# Altium schematic symbol library STM32F407_Board.SCHLIB: 166 symbols (part 1 of 3)
Pins are listed as number, name and electrical type; pins without a type are passive.

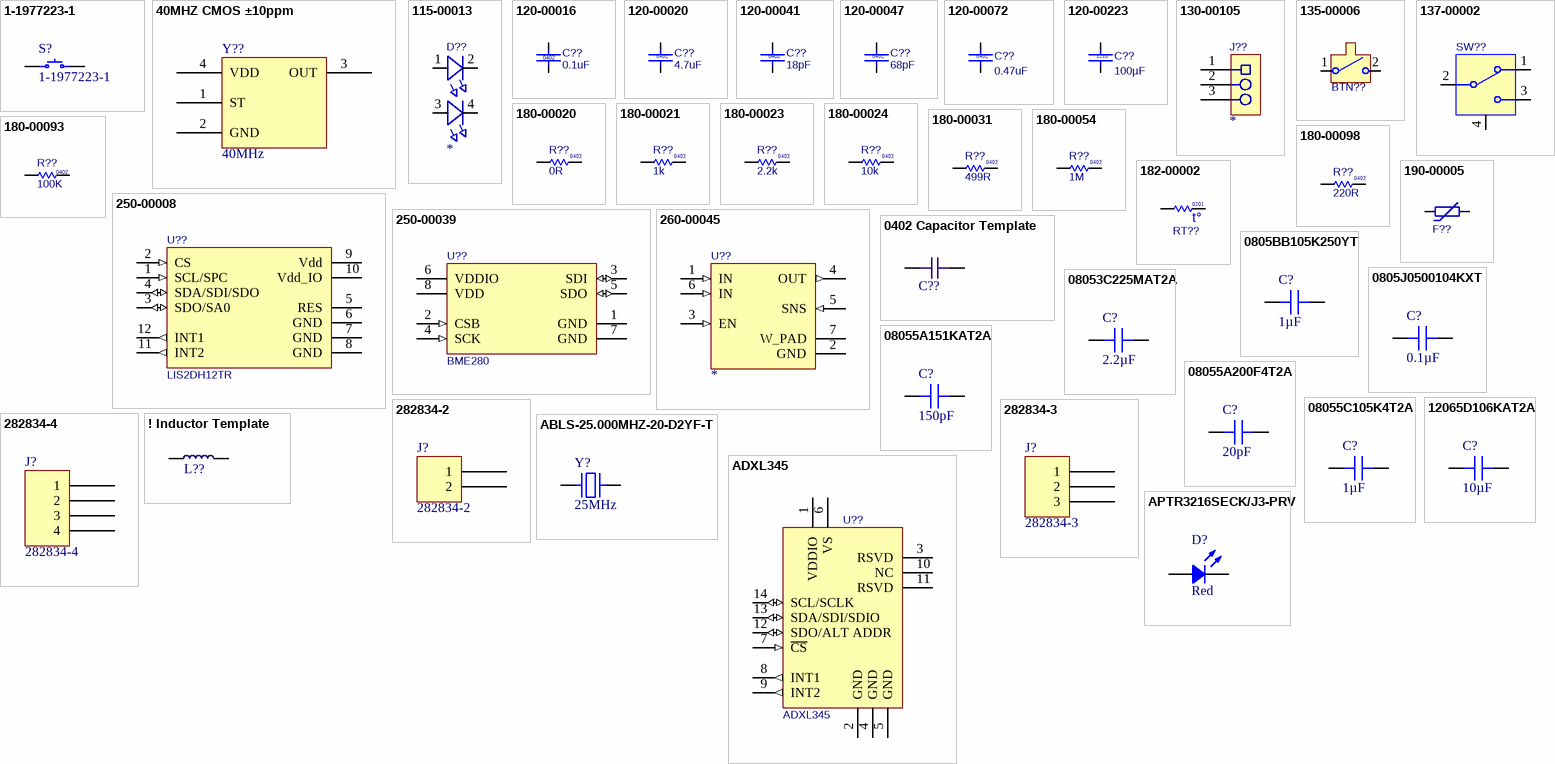
[diagram p0: symbols 1-1977223-1 to APTR3216SECK/J3-PRV]

## 1-1977223-1
designator S?
SWITCH TACTILE SPST-NO 0.05A 24V; Manufacturer: TE Connectivity ALCOSWITCH Switches; Actuator Height off PCB, Vertical: 5.00mm; Actuator Orientation: Top Actuated; Actuator Type: Standard; Contact Rating @ Voltage: 0.05A @ 24VDC; Illumination: Non-Illuminated; Operating Force: 260gf; Outline: 6.00mm x 6.00mm; Switch Function: Off-Mom; Part Number: 1-1977223-1; Circuit: SPST-NO; ComponentLink1Description: Datasheet; ComponentLink1URL: https://www.te.com/commerce/DocumentDelivery/DDEController?Action=srchrtrv&DocNm=1308111-1_SWITCHES_CORE_PROGRAM_CATALOG&DocType=CS&DocLang=English; ComponentLink2Description: DigiKey Link; ComponentLink2URL: http://digikey.com/product-detail/en/te-connectivity-alcoswitch-switches/1-1977223-1/1-1977223-1-ND/5597032; LastUpdated: 02/09/2020 01:27:07; Lifecycle Status: Active; Minimum Order: 0; Mounting Type: Surface Mount; Price: 0; Series: FSMJSMA; Supplier 1: DigiKey; Supplier Part Number 1: 1-1977223-1-ND; Termination Style: Gull Wing
footprint TE FSM4JSMA
pins: 1, 2, 3, 4

## 40MHZ CMOS ±10ppm
designator Y??, comment 40MHz
OSC MEMS 40.0000MHZ 1.8-3.3V 2016 SMD 15pF Load; Frequency Stability: ±10ppm; Current - Supply (Max): 4.5mA; Output: CMOS; Operating Temperature: -40°C ~ 85°C; Supplier 3: LCSC; Supplier Part Number 3: C669085
footprint SiT8008B (2.0 x 1.6 x 0.75 mm)
pins: 1 ST, 2 GND, 3 OUT, 4 VDD

## 115-00013
designator D??
Dual LED, Red/Green, Right Angle, Dome 1208; Part Number: 115-00013; Manufacturer 1: Dialight; Manufacturer Part Number 1: 5988510207F; Part Name: LED Red/Green RA SMT 1208; Body Size: 3.2mm x 1.5mm; Current: 20mA; Item Phase: In Production; MFG Package: 1208 Bi-color; Use in new designs: Yes; Voltage: None; Color: *; Supplier 1: Digi-Key; Supplier Part Number 1: 350-2072-1-ND; Height: 1.0mm; Max Operating Temp: None; Min Operating Temp: None; Pins: 4; Revision: 0A; Size: None; UBX Code: None; Manufacturer 2: None; Manufacturer Part Number 2: None; Supplier 2: None; Supplier Part Number 2: None
footprint LED_4Pin_4213_RA_3215
pins: 1 A1, 2 C1, 3 A2, 4 C2

## 120-00016
designator C??, comment value 0.1uF  Size: 0402  (hidden comment: 120-000160.1uF)
Cap, Ceramic 0.1uF 10V 10% X5R 0402; Part Name: CAP CER 0.1UF 10V 10% X5R 0402; Part_Type: Ceramic Capacitor; Manufacturer: Murata Electronics North America; Manufacturer P/N: GRM155R61A104KA01J; Item_Phase: Production; Component Mounting Type: SMT; Tolerance: +/- 10%; Use in new designs: Yes; Part Number: 120-00016; Revision: 0A; Supplier 1: Digi-Key; Supplier Part Number 1: 490-6297-1-ND; Manufacturer 2: Yageo; Manufacturer P/N 2: CC0402KRX5R6BB104; Supplier 2: Digi-Key; Supplier Part Number 2: 311-1336-1-ND; Arena Link: https://app.bom.com/a/GYHPV2L2L43KRMBK?v=spec.summary; Height: 0.55mm; Pins: 2; Temperature Coefficient: X5R; Voltage: 10V
simulation model CAP (Semiconductor Capacitor)
signal-integrity model Cap Semi
footprint Cap 0402 HD (Chip Capacitor, 2-Leads, Body 1.00x0.50mm, IPC High Density)
footprint Cap 0402
pins: 1, 2

## 120-00020
designator C??  value 4.7uF  Size: 0402
Cap, Ceramic 4.7uF 10V 20% X5R 0402; Part Number: 120-00020; Manufacturer 1: Samsung Electro-Mechanics America, Inc; Manufacturer Part Number 1: CL05A475MP5NRNC; Part Name: CAP CER 4.7uF 10V 20% X5R 0402; Item Phase: In Production; Tolerance: +/- 20%; Use in new designs: Yes; UBX Code: None; Supplier 1: Digi-Key; Supplier Part Number 1: 1276-1482-1-ND; Manufacturer 2: Yageo; Manufacturer Part Number 2: CC0402KRX5R6BB475; Supplier 2: Digi-Key; Supplier Part Number 2: 311-3477-1-ND; Height: 0.55mm; Max Operating Temp: 85; Min Operating Temp: -55; Pins: 2; Revision: 0C; Temperature Coefficient: X5R; Voltage: 10V
simulation model CAP (Semiconductor Capacitor)
signal-integrity model Cap Semi
footprint Cap 0402 HD
pins: 1, 2

## 120-00041
designator C??  value 18pF  Size: 0402
Cap, Ceramic 18pF 50V 5% NP0 0402; Part Number: 120-00041; Manufacturer 1: NIC Components Inc; Manufacturer Part Number 1: NMC0402NPO180J50TRPF; Part Name: CAP CER 18PF 50V 5% NP0 0402; Item Phase: In Production; Tolerance: +/- 5%; Use in new designs: Yes; UBX Code: None; Supplier 1: Arrow; Supplier Part Number 1: NMC0402NPO180J50TRPF; Manufacturer 2: CCK; Manufacturer Part Number 2: CCK0402NPO5J180PL; Supplier 2: None; Supplier Part Number 2: None; Height: 0.55mm; Max Operating Temp: 125; Min Operating Temp: -55; Pins: 2; Revision: 0C; Temperature Coefficient: NP0; Voltage: 50V
simulation model CAP (Semiconductor Capacitor)
signal-integrity model Cap Semi
footprint Cap 0402 HD
pins: 1, 2

## 120-00047
designator C??  value 68pF  Size: 0402
Cap, Ceramic, 68pF, 50V, 1%, NP0, 0402; Part Number: 120-00047; Manufacturer 1: Murata Electronics North America; Manufacturer Part Number 1: GRM1555C1H680FA01D; Part Name: CAP CER 68PF 50V 1% NP0 0402; Item Phase: Unreleased; Tolerance: +/- 1%; Use in new designs: Yes; UBX Code: None; Supplier 1: Digi-Key; Supplier Part Number 1: 490-8219-1-ND; Manufacturer 2: AVX Corporation; Manufacturer Part Number 2: 04025A680FAT2A; Supplier 2: Digi-Key; Supplier Part Number 2: 478-7881-1-ND; Height: 0.55mm; Max Operating Temp: 125; Min Operating Temp: -55; Pins: 2; Revision: None; Temperature Coefficient: NP0; Voltage: 50V
simulation model CAP (Semiconductor Capacitor)
signal-integrity model Cap Semi
footprint Cap 0402 HD
pins: 1, 2

## 120-00072
designator C??  value 0.47uF  Size: 0402
Cap, Ceramic, 0.47UF 10V 10% X5R 0402; Part Number: 120-00072; Manufacturer 1: Murata Electronics North America; Manufacturer Part Number 1: GRM155R61A474KE15J; Part Name: CAP CER 0.47UF 10V 10% X5R 0402; Item Phase: In Production; Tolerance: +/- 10%; Use in new designs: Yes; UBX Code: None; Supplier 1: Digi-Key; Supplier Part Number 1: 490-6305-1-ND; Manufacturer 2: Samsung Electro-Mechanics America, Inc; Manufacturer Part Number 2: CL05A474KP5NNNC; Supplier 2: Digi-Key; Supplier Part Number 2: 1276-1173-1-ND; Height: 0.55mm; Max Operating Temp: 85; Min Operating Temp: -55; Pins: 2; Revision: 0A; Temperature Coefficient: X5R; Voltage: 10V
simulation model CAP (Semiconductor Capacitor)
signal-integrity model Cap Semi
footprint Cap 0402 HD
pins: 1, 2

## 120-00223
designator C??  value 100µF  Size: 1210
100µF ±20% 10V Ceramic Capacitor X5R 1210 (3225 Metric); Part Number: 120-00223; Manufacturer 1: Samsung Electro-Mechanics America, Inc.; Manufacturer Part Number 1: CL32A107MPVNNNE; Part Name: CAP CER 100UF 10V 20% X5R 1210; Item Phase: In Production; Tolerance: +/- 20%; Use in new designs: Yes; UBX Code: None; Supplier 1: Future Electronics; Supplier Part Number 1: Samsung Electro-Mechanics America, Inc. CL32A107MPVNNNE; Manufacturer 2: None; Manufacturer Part Number 2: None; Supplier 2: None; Supplier Part Number 2: None; Height: 2.8mm; Max Operating Temp: 85; Min Operating Temp: -55; Pins: 2; Revision: 0A; Temperature Coefficient: X5R; Voltage: 10V
simulation model CAP (Semiconductor Capacitor)
signal-integrity model Cap Semi
footprint Cap 1210
pins: 1, 2

## 130-00105
designator J??
Header, 0.100" Pitch, 3 Pin, Vertical SMT, Black; Part Number: 130-00105; Manufacturer 1: Harwin Inc; Manufacturer Part Number 1: M20-8770342; Part Name: CON HDR 0.1" 3 Pin 1 Row SMT; Item Phase: In Production; Use in new designs: Yes; Voltage: None; Manufacturer P/N: *; Supplier 1: Digi-Key; Supplier Part Number 1: 952-1951-ND; Diameter: None; Height: 9.93mm; Max Operating Temp: None; Min Operating Temp: None; Pins: 3; Revision: 0C; UBX Code: None; Manufacturer 2: Greenconn Corporation; Manufacturer Part Number 2: GPHC1010302A081B1BD; Supplier 2: Teamwise Limited; Supplier Part Number 2: Greenconn Corporation GPHC1010302A081B1BD
footprint HDR-0.1P-3Pin-1Row-SMT
pins: 1, 2, 3

## 135-00006
designator BTN??
Button SPST-NO Off-MOM, 50mA 12V, Right Angle, SMT; Part Number: 135-00006; Manufacturer 1: Omron Electronics Inc-EMC Div; Manufacturer Part Number 1: B3U-3000P; Part Name: Button Tactile SPST-NO 50mA 3mm RA SMT; Body Size: 3.00mm x 2.50mm; Item Phase: In Production; Use in new designs: Yes; Voltage: 12VDC; UBX Code: None; Supplier 1: Digi-Key; Supplier Part Number 1: SW1022CT-ND; Current: 50mA; Height: 1.35mm; Max Operating Temp: 70; Min Operating Temp: -25; Pins: 2; Revision: 0A; Manufacturer 2: None; Manufacturer Part Number 2: None; Supplier 2: None; Supplier Part Number 2: None
footprint B3U-3000P
pins: 1, 2

## 137-00002
designator SW??
Slide switch, SPDT, 3 Pin, 500mA, 15V, Through Hole; Part Number: 137-00002; Manufacturer 1: E-Switch; Manufacturer Part Number 1: EG1224; Part Name: Switch Slide SPDT 500mA 13.8mm RA TH; Item Phase: Unreleased; Use in new designs: Yes; UBX Code: None; Supplier 1: Digi-Key; Supplier Part Number 1: EG2585-ND; Current: 500mA; Height: 8.5mm; Max Operating Temp: 70; Min Operating Temp: -20; Pins: 3; Revision: None; Voltage: 15V; Manufacturer 2: None; Manufacturer Part Number 2: None; Supplier 2: None; Supplier Part Number 2: None
footprint EG1224
pins: 1, 2, 3, 4 GND (power)

## 180-00020
designator R??  value 0R  Size: 0402
Resistor 0 ohm 1/16W 0402; Part Number: 180-00020; Manufacturer 1: Yageo; Manufacturer Part Number 1: RC0402FR-070RL; Part Name: RES SMD 0.0 OHM JUMPER 1/16W 0402; Item Phase: In Production; Tolerance: None; Use in new designs: Yes; Supplier 1: Digi-Key; Supplier Part Number 1: 311-0.0LRCT-ND; Manufacturer 2: Hong Kong Resistors Manufactory; Manufacturer Part Number 2: RCT020RLF; Supplier 2: None; Supplier Part Number 2: None; Height: 0.40mm; Max Operating Temp: 155; Min Operating Temp: -55; Pins: 2; Power: 1/16W; Revision: 0E; Voltage: N/A; UBX Code: None
simulation model RESISTOR (Resistor)
signal-integrity model Res
footprint RES 0402 HD
pins: 1, 2

## 180-00021
designator R??  value 1k  Size: 0402
Resistor 1k ohm 1% 1/16W, 0402; Part Number: 180-00021; Manufacturer 1: Hong Kong Resistors Manufactory; Manufacturer Part Number 1: RCT021KFLF; Part Name: RES SMD 1K OHM 1% 1/16W 0402; Item Phase: In Production; Tolerance: +/- 1%; Use in new designs: Yes; Voltage: None; Supplier 1: None; Supplier Part Number 1: None; Manufacturer 2: Yageo; Manufacturer Part Number 2: RC0402FR-071KL; Supplier 2: Digi-Key; Supplier Part Number 2: 311-1.00KLRCT-ND; Height: 0.4mm; Max Operating Temp: 155; Min Operating Temp: -55; Pins: 2; Power: 1/16W; Revision: 0E; UBX Code: None
simulation model RESISTOR (Resistor)
signal-integrity model Res
footprint RES 0402 HD
pins: 1, 2

## 180-00023
designator R??  value 2.2k  Size: 0402
Resistor, 2.2Kohm, 1%, 1/16W, 0402; Part Number: 180-00023; Manufacturer 1: Rohm Semiconductor; Manufacturer Part Number 1: MCR01MRTF2201; Part Name: RES SMD 2.2K OHM 1% 1/16W 0402; Item Phase: In Production; Tolerance: +/- 1%; Use in new designs: Yes; Voltage: None; Supplier 1: Digi-Key; Supplier Part Number 1: RHM2.20KCDCT-ND; Manufacturer 2: Yageo; Manufacturer Part Number 2: RC0402FR-072K2L; Supplier 2: Digi-Key; Supplier Part Number 2: 311-2.20KLRCT-ND; Height: 0.4mm; Max Operating Temp: 155; Min Operating Temp: -55; Pins: 2; Power: 1/16W; Revision: 0A; UBX Code: None
simulation model RESISTOR (Resistor)
signal-integrity model Res
footprint RES 0402 HD
pins: 1, 2

## 180-00024
designator R??  value 10k  Size: 0402
Resistor 10k ohm 1% 1/16W, 0402; Part Number: 180-00024; Manufacturer 1: Samsung Electro-Mechanics America, Inc; Manufacturer Part Number 1: RC1005F103CS; Part Name: RES SMD 10K OHM 1% 1/16W 0402; Item Phase: In Production; Tolerance: +/- 1%; Use in new designs: Yes; UBX Code: None; Supplier 1: Digi-Key; Supplier Part Number 1: 1276-3431-1-ND; Manufacturer 2: Hong Kong Resistors Manufactory; Manufacturer Part Number 2: RCT0210KFLF; Supplier 2: None; Supplier Part Number 2: None; Height: 0.4mm; Max Operating Temp: 155; Min Operating Temp: -55; Pins: 2; Power: 1/16W; Revision: 0E; Voltage: N/A
simulation model RESISTOR (Resistor)
signal-integrity model Res
footprint RES 0402 HD
pins: 1, 2

## 180-00031
designator R??  value 499R  Size: 0402
Resistor, 499ohm, 1%, 1/16W, 0402; Part Number: 180-00031; Part Name: RES SMD 499 OHM 1% 1/16W 0402; Manufacturer: Rohm Semiconductor; Manufacturer P/N: MCR01MRTF4990; Item_Phase: Production; Component Mounting Type: SMT; Tolerance: +/- 1%; Use in new designs: Yes; Part_Type: Resistor; Supplier 1: Digi-Key; Supplier Part Number 1: RHM499CDCT-ND; Manufacturer 2: Samsung Electro-Mechanics America, Inc; Manufacturer P/N 2: RC1005F4990CS; Arena Link: https://app.bom.com/a/Q8RZ5CVCVEDU1SS5?v=spec.summary; Height: 0.4mm; Pins: 2; Power: 1/16W; Revision: 0D; Supplier 2: Digi-Key; Supplier Part Number 2: 1276-3992-1-ND; Alternate Footprint Ref: RES 0402
simulation model RESISTOR (Resistor)
signal-integrity model Res
footprint RES 0402 HD
pins: 1, 2

## 180-00054
designator R??  value 1M  Size: 0402
Resistor 1M ohm 1%, 1/16W, 0402; Part Number: 180-00054; Manufacturer 1: Samsung Electro-Mechanics America, Inc; Manufacturer Part Number 1: RC1005F105CS; Part Name: RES SMD 1M OHM 1% 1/16W 0402; Item Phase: In Production; Tolerance: +/- 1%; Use in new designs: Yes; Voltage: None; Supplier 1: Digi-Key; Supplier Part Number 1: 1276-3433-1-ND; Manufacturer 2: Hong Kong Resistors Manufactory; Manufacturer Part Number 2: RCT021MFLF; Supplier 2: None; Supplier Part Number 2: None; Height: 0.4mm; Max Operating Temp: 155; Min Operating Temp: -55; Pins: 2; Power: 1/16W; Revision: 0D; UBX Code: None
simulation model RESISTOR (Resistor)
signal-integrity model Res
footprint RES 0402 HD
pins: 1, 2

## 180-00093
designator R??  value 100K  Size: 0402
Resistor 100K ohm 1% 1/16W, 0402; Part Number: 180-00093; Manufacturer 1: Yageo; Manufacturer Part Number 1: RC0402FR-07100KL; Part Name: RES SMD 100K ohm 1% 1/16W 0402; Item Phase: In Production; Tolerance: +/- 1%; Use in new designs: Yes; Voltage: None; Supplier 1: Digi-Key; Supplier Part Number 1: 311-100KLRCT-ND; Manufacturer 2: Rohm Semiconductor; Manufacturer Part Number 2: MCR01MRTF1003; Supplier 2: Digi-Key; Supplier Part Number 2: RHM100KCDCT-ND; Height: 0.4mm; Max Operating Temp: 155; Min Operating Temp: -55; Pins: 2; Power: 1/16W; Revision: 0B; UBX Code: None
simulation model RESISTOR (Resistor)
signal-integrity model Res
footprint RES 0402 HD
pins: 1, 2

## 180-00098
designator R??  value 220R  Size: 0402
Resistor, 220ohm, 5%, 1/16W, 0402.; Part Number: 180-00098; Part Name: RES SMD 220 OHM 5% 1/16W 0402; Manufacturer: Panasonic Electronic Components; Manufacturer P/N: ERJ-2GEJ221X; Item_Phase: Production; Component Mounting Type: SMT; Tolerance: +/- 5%; Use in new designs: Yes; Part_Type: Resistor; Supplier 1: Digi-Key; Supplier Part Number 1: P220JCT-ND; Arena Link: https://app.bom.com/a/8Q9HNUDUDWVBJC30?v=spec.summary; Pins: 2; Power: 1/16W; Revision: 0C; Manufacturer 2: Samsung Electro-Mechanics America, Inc; Manufacturer P/N 2: RC1005J221CS; Supplier 2: Digi-Key; Supplier Part Number 2: 1276-4360-1-ND; Alternate Footprint Ref: RES 0402; Height: 0.4mm
simulation model RESISTOR (Resistor)
signal-integrity model Res
footprint RES 0402 HD
pins: 1, 2

## 182-00002
designator RT??, comment Size: 0201  (hidden comment: Res Thermal)
Thermistor, 10Kohm, NTC 5%, 0201, 0.6mm x 0.3mm; Part Number: 182-00002; Manufacturer 1: Murata Electronics North America; Manufacturer Part Number 1: NCP03XH103J05RL; Part Name: Thermistor 10k Ohm 5% 3380K 0201; Item Phase: Unreleased; Power: 1/20W; Tolerance: +/- 5%; Use in new designs: Yes; Value: 10k; Voltage: None; Supplier 1: Digi-Key; Supplier Part Number 1: 490-4644-1-ND; Body Size: 0.6mm x 0.3mm; Height: 0.26mm; Max Operating Temp: 125; Min Operating Temp: -40; Pins: 2; Revision: None; UBX Code: None
footprint RES 0201 HD
pins: 1, 2
text: t°

## 190-00005
designator F??
Fuse, PTC 8V, 750mA, hold, 1.5A trip, 1206; Part Number: 190-00005; Manufacturer 1: Littelfuse; Manufacturer Part Number 1: 1206L075THYR; Part Name: Fuse PTC 8V 750mA 1206; Body Size: None; Item Phase: Unreleased; MFG Package: 1206L; Use in new designs: Yes; Supplier 1: Digi-Key; Supplier Part Number 1: F3370CT-ND; Current: 750mA; Height: 0.75mm; Max Operating Temp: 85; Min Operating Temp: -40; Pins: 2; Revision: None; Size: 1206; Voltage: None; UBX Code: None
footprint Fuse 1206
pins: 1, 2

## 250-00008
designator U??  Manufacturer P/N: LIS2DH12TR
Accelerometer, 2G-16G Max, 12bit, LGA-12; Part Number: 250-00008; Part Name: LIS2DH12; Part_Type: Active Sensor; Manufacturer: STMicroelectronics; Item_Phase: Production; Accuracy: 1mg/digit; Bit Resolution: 12; Body Size: 2mm x 2mm; Component Mounting Type: SMT; Controller Interface: I2C/SPI; MFG Package: 12-LGA (2x2); Sensor Range Max: +/-16g; Sensor Range Min: +/-2g; SMT Pitch: 0.5mm; Use in new designs: Yes; Voltage: 3.6V; Revision: 0A; Supplier 1: Digi-Key; Supplier Part Number 1: 497-14851-1-ND; Arena Link: https://app.bom.com/a/I0JRX4N4N65KM89I?v=spec.summary; Height: 1mm; Package Type: LGA; Pins: 12; Sensor Type: Accelerometer
footprint LGA0.5P_4x4_12Pin
pins: 1 SCL/SPC (in), 2 CS (in), 3 SDO/SA0 (io), 4 SDA/SDI/SDO (io), 5 RES, 6 GND (power), 7 GND (power), 8 GND (power), 9 Vdd (power), 10 Vdd_IO (power), 11 INT2 (out), 12 INT1 (out)

## 250-00039
designator U??  Manufacturer P/N: BME280
SENSOR PRESSURE HUMIDITY TEMP; Part Number: 250-00039; Part_Type: Active Sensor; Manufacturer: Bosch Sensortec; Item_Phase: Pre-Production; Accuracy: ±3%; Body Size: 2.5mm x 2.5mm; Component Mounting Type: SMT; Controller Interface: I2C/SPI; MFG Package: DFN-8; Sensor Range Max: 1100 hPa; Sensor Range Min: 300 hPa; Sensor Type: Humidity/Pressure; SMT Pitch: 0.65mm; Use in new designs: Yes; Voltage: 3.6V; Part Name: BME280; Revision: 1; Supplier 1: Digi-Key; Supplier Part Number 1: 828-1063-1-ND; Arena Link: https://app.bom.com/a/ASBJPWFWFYX2LZ4C?v=spec.summary; Height: 1mm; Package Type: DFN; Pins: 8
footprint DFN0.65P-8Pin
pins: 1 GND (power), 2 CSB (in), 3 SDI (io), 4 SCK (in), 5 SDO (io), 6 VDDIO (power), 7 GND (power), 8 VDD (power)

## 260-00045
designator U??
IC REG LDO 3.3V 1A 6DFN; Part Number: 260-00045; Manufacturer 1: ON Semiconductor; Manufacturer Part Number 1: NCP692MN33T2G; Body Size: 3mm x 3mm; Item Phase: Unreleased; Reg Outputs: None; MFG Package: 6-VDFN Exposed Pad; SMT Pitch: 0.95mm; Thermal Pad: Yes; Manufacturer P/N: *; Supplier 1: Digi-Key; Supplier Part Number 1: NCP692MN33T2GOSTR-ND; Current: 1A; Height: 1mm; Max Operating Temp: 85; Min Operating Temp: -40; Part Name: NCP692MN33T2G; Pins: 6; Revision: None; Use in new designs: Yes; Voltage: 3.3V; UBX Code: None; Manufacturer 2: None; Manufacturer Part Number 2: None; Supplier 2: None; Supplier Part Number 2: None
footprint DFN0.95P-6Pin_W-Pad
pins: 1 IN (in), 2 GND (power), 3 EN (in), 4 OUT (out), 5 SNS (in), 6 IN (in), 7 W_PAD (power)

## 0402 Capacitor Template
designator C??  (value not drawn)
Chip Capacitor, 0402, ??nF, 10V, X7R; EIA Code: X7R; Max. Voltage: 10V; Value: ??nF
footprint C0402-IPC
footprint C0402-HIGH-DENSITY (Chip Capacitor, 2-Leads, Body 1.02x0.51mm, IPC High Density)
pins: 1, 2

## 0805BB105K250YT
designator C?, comment 1µF
CAP CER 1UF 25V X7R 0805; Part Number: 0805BB105K250YT; Manufacturer: Knowles Novacap; Tolerance: ±10%; Value: 1µF; Applications: General Purpose; Capacitance: 1µF; ComponentLink1Description: Datasheet; ComponentLink1URL: https://www.knowlescapacitors.com/getattachment/6c8d48ef-fc2b-4752-ae2c-ce6c208de0c4/High-Capacitance-Chip.aspx; ComponentLink2Description: DigiKey Link; ComponentLink2URL: http://digikey.com/product-detail/en/knowles-novacap/0805BB105K250YT/1763-1195-1-ND/7304292; Device Package: 0805 (2012 Metric); LastUpdated: 9/2/2020 01:04:39; Lifecycle Status: Active; Minimum Order: 1; Mounting Type: Surface Mount, MLCC; Operating Temperature: -55°C ~ 125°C; Package / Case: 0805 (2012 Metric); Packaging: TapeAndReel; PartId: 4178; Part Status: Active; Price: 0.89; Series: -; Size / Dimension: 0.080" L x 0.050" W (2.03mm x 1.27mm); Supplier 1: DigiKey; Supplier Part Number 1: 1763-1195-1-ND; Temperature Coefficient: X7R; Thickness (Max): 0.054" (1.37mm); Voltage - Rated: 25V
footprint CAP 0805_2012
pins: 1, 2

## 0805J0500104KXT
designator C?, comment 0.1µF
CAP CER 0.1UF 50V X7R 0805; Part Number: 0805J0500104KXT; Manufacturer: Knowles Syfer; Tolerance: ±10%; Value: 0.1µF; Applications: General Purpose; Capacitance: 0.1µF; ComponentLink1Description: Datasheet; ComponentLink1URL: https://www.knowlescapacitors.com/getattachment/2dbfc8bc-e2b3-4b4d-afb1-43b011b9ebe0/High-Std-Voltage.aspx; ComponentLink2Description: DigiKey Link; ComponentLink2URL: http://digikey.com/product-detail/en/knowles-syfer/0805J0500104KXT/1608-1000-1-ND/5730199; Device Package: 0805 (2012 Metric); LastUpdated: 02/09/2020 01:04:31; Lifecycle Status: Active; Minimum Order: 1; Mounting Type: Surface Mount, MLCC; Operating Temperature: -55°C ~ 125°C; Package / Case: 0805 (2012 Metric); Packaging: TapeAndReel; PartId: 8322; Part Status: Active; Price: 0.17; Series: -; Size / Dimension: 0.079" L x 0.049" W (2.00mm x 1.25mm); Supplier 1: DigiKey; Supplier Part Number 1: 1608-1000-1-ND; Temperature Coefficient: X7R; Thickness (Max): 0.051" (1.30mm); Voltage - Rated: 50V
footprint CAP 0805_2012
pins: 1, 2

## 08053C225MAT2A
designator C?, comment 2.2µF
CAP CER 2.2UF 25V X7R 0805; Part Number: 08053C225MAT2A; Manufacturer: AVX Corporation; Tolerance: ±20%; Value: 2.2µF; Applications: General Purpose; Capacitance: 2.2µF; ComponentLink1Description: Datasheet; ComponentLink1URL: http://datasheets.avx.com/X7RDielectric.pdf; ComponentLink2Description: DigiKey Link; ComponentLink2URL: http://digikey.com/product-detail/en/avx-corporation/08053C225MAT2A/478-10489-1-ND/6797614; Device Package: 0805 (2012 Metric); LastUpdated: 9/2/2020 01:04:11; Lifecycle Status: Active; Minimum Order: 1; Mounting Type: Surface Mount, MLCC; Operating Temperature: -55°C ~ 125°C; Package / Case: 0805 (2012 Metric); Packaging: TapeAndReel; PartId: 16805; Part Status: Active; Price: 0.09; Series: -; Size / Dimension: 0.079" L x 0.049" W (2.01mm x 1.25mm); Supplier 1: DigiKey; Supplier Part Number 1: 478-10489-1-ND; Temperature Coefficient: X7R; Thickness (Max): 0.060" (1.52mm); Voltage - Rated: 25V
footprint CAP 0805_2012
pins: 1, 2

## 08055A151KAT2A
designator C?, comment 150pF
CAP CER 150PF 50V NP0 0805; Part Number: 08055A151KAT2A; Manufacturer: AVX Corporation; Temperature Coefficient: C0G, NP0; Tolerance: ±10%; Value: 150pF; Applications: General Purpose; Capacitance: 150pF; ComponentLink1Description: Datasheet; ComponentLink1URL: http://datasheets.avx.com/C0GNP0-Dielectric.pdf; ComponentLink2Description: DigiKey Link; ComponentLink2URL: http://digikey.com/product-detail/en/avx-corporation/08055A151KAT2A/478-10501-1-ND/6797479; Device Package: 0805 (2012 Metric); LastUpdated: 9/2/2020 01:04:10; Lifecycle Status: Active; Minimum Order: 1; Mounting Type: Surface Mount, MLCC; Operating Temperature: -55°C ~ 125°C; Package / Case: 0805 (2012 Metric); Packaging: TapeAndReel; PartId: 17161; Part Status: Active; Price: 0.02; Series: -; Size / Dimension: 0.079" L x 0.049" W (2.01mm x 1.25mm); Supplier 1: DigiKey; Supplier Part Number 1: 478-10501-1-ND; Thickness (Max): 0.037" (0.94mm); Voltage - Rated: 50V
footprint CAP 0805_2012
pins: 1, 2

## 08055A200F4T2A
designator C?, comment 20pF
CAP CER 20PF 50V NP0 0805; Part Number: 08055A200F4T2A; Manufacturer: AVX Corporation; Temperature Coefficient: C0G, NP0; Tolerance: ±1%; Value: 20pF; Applications: Automotive; Capacitance: 20pF; ComponentLink1Description: Datasheet; ComponentLink1URL: http://datasheets.avx.com/C0GNP0-Dielectric.pdf; ComponentLink2Description: DigiKey Link; ComponentLink2URL: http://digikey.com/product-detail/en/avx-corporation/08055A200F4T2A/478-13059-1-ND/9948577; Device Package: 0805 (2012 Metric); LastUpdated: 02/09/2020 01:04:29; Lifecycle Status: Active; Minimum Order: 1; Mounting Type: Surface Mount, MLCC; Operating Temperature: -55°C ~ 125°C; Package / Case: 0805 (2012 Metric); Packaging: TapeAndReel; PartId: 9474; Part Status: Active; Price: 0.11; Ratings: AEC-Q200; Series: -; Size / Dimension: 0.079" L x 0.049" W (2.01mm x 1.25mm); Supplier 1: DigiKey; Supplier Part Number 1: 478-13059-1-ND; Voltage - Rated: 50V
footprint CAP 0805_2012
pins: 1, 2

## 08055C105K4T2A
designator C?, comment 1µF
CAP CER 1UF 50V X7R 0805; Part Number: 08055C105K4T2A; Manufacturer: AVX Corporation; Tolerance: ±10%; Value: 1µF; Applications: Automotive; Capacitance: 1µF; ComponentLink1Description: Datasheet; ComponentLink1URL: http://datasheets.avx.com/AutoMLCC.pdf; ComponentLink2Description: DigiKey Link; ComponentLink2URL: http://digikey.com/product-detail/en/avx-corporation/08055C105K4T2A/478-9556-1-ND/5322894; Device Package: 0805 (2012 Metric); LastUpdated: 02/09/2020 01:04:35; Lifecycle Status: Active; Minimum Order: 1; Mounting Type: Surface Mount, MLCC; Operating Temperature: -55°C ~ 125°C; Package / Case: 0805 (2012 Metric); Packaging: TapeAndReel; PartId: 6460; Part Status: Active; Price: 0.08; Ratings: AEC-Q200; Series: -; Size / Dimension: 0.079" L x 0.049" W (2.00mm x 1.25mm); Supplier 1: DigiKey; Supplier Part Number 1: 478-9556-1-ND; Temperature Coefficient: X7R; Thickness (Max): 0.055" (1.40mm); Voltage - Rated: 50V
footprint CAP 0805_2012
pins: 1, 2

## 12065D106KAT2A
designator C?, comment 10µF
CAP CER 10UF 50V X5R 1206; Part Number: 12065D106KAT2A; Manufacturer: AVX Corporation; Tolerance: ±10%; Value: 10µF; Applications: General Purpose; Capacitance: 10µF; ComponentLink1Description: Datasheet; ComponentLink1URL: http://datasheets.avx.com/cx5r.pdf; ComponentLink2Description: DigiKey Link; ComponentLink2URL: http://digikey.com/product-detail/en/avx-corporation/12065D106KAT2A/478-9979-1-ND/6149060; Device Package: 1206 (3216 Metric); LastUpdated: 02/09/2020 01:05:35; Lifecycle Status: Active; Minimum Order: 1; Mounting Type: Surface Mount, MLCC; Operating Temperature: -55°C ~ 85°C; Package / Case: 1206 (3216 Metric); Packaging: TapeAndReel; PartId: 21345; Part Status: Active; Price: 0.16; Series: -; Size / Dimension: 0.126" L x 0.063" W (3.20mm x 1.60mm); Supplier 1: DigiKey; Supplier Part Number 1: 478-9979-1-ND; Temperature Coefficient: X5R; Thickness (Max): 0.071" (1.80mm); Voltage - Rated: 50V
footprint CAP 1206_3216 - 1.8MM
pins: 1, 2

## 282834-2
designator J?
TERM BLK 2P SIDE ENT 2.54MM PCB; Manufacturer: TE Connectivity AMP Connectors; Current: 10A; Mating Orientation: Horizontal with Board; Number of Levels: 1; Pitch: 0.100" (2.54mm); Positions Per Level: 2; Voltage: 150V; Wire Gauge: 16-30 AWG; Wire Termination: Screw - Rising Cage Clamp; Part Number: 282834-2; Color: Green; ComponentLink1Description: Datasheet; ComponentLink1URL: https://www.te.com/commerce/DocumentDelivery/DDEController?Action=srchrtrv&DocNm=282834&DocType=Customer+Drawing&DocLang=English; ComponentLink2Description: DigiKey Link; ComponentLink2URL: http://digikey.com/product-detail/en/te-connectivity-amp-connectors/282834-2/A98333-ND/1150135; LastUpdated: 15/01/2020 04:15:38; Lifecycle Status: Active; Minimum Order: 1; Mounting Type: Through Hole; Packaging: Bulk; Part Status: Active; Price: 0.88; Series: Buchanan; Supplier 1: DigiKey; Supplier Part Number 1: A98333-ND
footprint TE 282834-2
pins: 1, 2

## 282834-3
designator J?
TERM BLK 3P SIDE ENT 2.54MM PCB; Manufacturer: TE Connectivity AMP Connectors; Current: 10A; Mating Orientation: Horizontal with Board; Number of Levels: 1; Pitch: 0.100" (2.54mm); Positions Per Level: 3; Voltage: 150V; Wire Gauge: 16-30 AWG; Wire Termination: Screw - Rising Cage Clamp; Part Number: 282834-3; Color: Green; ComponentLink1Description: Datasheet; ComponentLink1URL: https://www.te.com/commerce/DocumentDelivery/DDEController?Action=srchrtrv&DocNm=282834&DocType=Customer+Drawing&DocLang=English; ComponentLink2Description: DigiKey Link; ComponentLink2URL: http://digikey.com/product-detail/en/te-connectivity-amp-connectors/282834-3/A98334-ND/1153264; LastUpdated: 1/15/2020 04:15:50; Lifecycle Status: Active; Minimum Order: 1; Mounting Type: Through Hole; Packaging: Bulk; Part Status: Active; Price: 2.01; Series: Buchanan; Supplier 1: DigiKey; Supplier Part Number 1: A98334-ND
footprint TE 282834-3
pins: 1, 2, 3

## 282834-4
designator J?
TERM BLK 4P SIDE ENT 2.54MM PCB; Manufacturer: TE Connectivity AMP Connectors; Current: 10A; Mating Orientation: Horizontal with Board; Number of Levels: 1; Pitch: 0.100" (2.54mm); Positions Per Level: 4; Voltage: 150V; Wire Gauge: 16-30 AWG; Wire Termination: Screw - Rising Cage Clamp; Part Number: 282834-4; Color: Green; ComponentLink1Description: Datasheet; ComponentLink1URL: https://www.te.com/commerce/DocumentDelivery/DDEController?Action=srchrtrv&DocNm=282834&DocType=Customer+Drawing&DocLang=English; ComponentLink2Description: DigiKey Link; ComponentLink2URL: http://digikey.com/product-detail/en/te-connectivity-amp-connectors/282834-4/A98335-ND/1153265; LastUpdated: 1/15/2020 04:16:05; Lifecycle Status: Active; Minimum Order: 1; Mounting Type: Through Hole; Packaging: Bulk; Part Status: Active; Price: 2.68; Series: Buchanan; Supplier 1: DigiKey; Supplier Part Number 1: A98335-ND
footprint TE 282834-4
pins: 1, 2, 3, 4

## ! Inductor Template
designator L??  (value not drawn)
Inductor, ??uH; Value: ??H
footprint L0402-Murata-WW-High-Density (Chip Inductor, 2-Leads, Body 1.00x0.50mm, IPC High Density)
pins: 1, 2

## ABLS-25.000MHZ-20-D2YF-T
designator Y?, comment 25MHz
CRYSTAL 25.000MHZ 20PF SMD; Part Number: ABLS-25.000MHZ-20-D2YF-T; Manufacturer: Abracon LLC; ESR (Equivalent Series Resistance): 40 Ohms; Frequency Stability: ±30ppm; Frequency Tolerance: ±20ppm; Operating Mode: Fundamental; ComponentLink1Description: Datasheet; ComponentLink1URL: https://abracon.com/Resonators/abls.pdf; ComponentLink2Description: DigiKey Link; ComponentLink2URL: http://digikey.com/product-detail/en/abracon-llc/ABLS-25.000MHZ-20-D2YF-T/535-14354-1-ND/8582115; Frequency: 25MHz; Height - Seated (Max): 0.165" (4.20mm); LastUpdated: 02/09/2020 01:21:46; Lifecycle Status: Active; Load Capacitance: 20pF; Minimum Order: 1; Mounting Type: Surface Mount; Operating Temperature: -40°C ~ 85°C; Package / Case: HC-49/US; Packaging: TapeAndReel; PartId: 14; Part Status: Active; Price: 0.24; Series: ABLS; Size / Dimension: 0.449" L x 0.185" W (11.40mm x 4.70mm); Supplier 1: DigiKey; Supplier Part Number 1: 535-14354-1-ND; Type: MHz Crystal; Value: 25MHz
footprint ABRACON ABLS
pins: 1, 2

## ADXL345
designator U??  Manufacturer Part Number 1: ADXL345
SENSOR, ACCELEROMETER, 3-AXIS, I2C, SMT, +/-16g, LGA-14 3mmX5mm; Manufacturer 1: Analog Devices; Part Name: B39162B4353P810; Body Size: 1.4mm x 1.1mm; Current: None; Item Phase: In Production; MFG Package: QCS5P; Use in new designs: Yes; Part Number: ADXL345; Height: 0.45mm; Max Operating Temp: 85; Min Operating Temp: -40; Pins: 5; Revision: 0A; Voltage: N/A; UBX Code: None
footprint ADXL345 (CC-14-1, 14-pin LGA, Analog Devices Accelerometer, .8mm pitch, 3mmX5mm)
pins: 1 VDDIO (power) "Digital Supply Logic Voltage", 2 GND (power) "Ground", 3 RSVD "Connect to Vs or No Connect", 4 GND (power) "Ground", 5 GND (power) "Ground", 6 VS (power) "Supply Voltage", 7 ~{CS} (in) "Logic Low Chip Select for SPI Modes", 8 INT1 (out) "Interrupt 1 Output", 9 INT2 (out) "Interrupt 2 Output", 10 NC "Not Internally Connected", 11 RSVD "Connect to Gnd or No Connect", 12 SDO/ALT ADDR (io) "Serial Data Output/Alternate I2C Address Select.", 13 SDA/SDI/SDIO (io) "Serial Data (I2C)/Serial Data Input (SPI 4-Wire)/Serial Data Input and Output (SPI 3-Wire).", 14 SCL/SCLK (io) "Serial Communications Clock."

## APTR3216SECK/J3-PRV
designator D?, comment Red
LED SMD; Part Number: APTR3216SECK/J3-PRV; Manufacturer: Kingbright; Configuration: 1206; Current - Test: 20mA; Lens Color: Colorless; Lens Size: 1.60mm x 1.40mm; Lens Style: Rectangle with Flat Top; Lens Transparency: Clear; Millicandela Rating: 350mcd; Viewing Angle: 140°; Voltage - Forward (Vf) (Typ): 2.2V; Wavelength - Dominant: 625nm; Wavelength - Peak: 640nm; Color: Red; ComponentLink1Description: Datasheet; ComponentLink1URL: http://www.kingbrightusa.com/images/catalog/SPEC/APTR3216SECK-J3-PRV.pdf; ComponentLink2Description: DigiKey Link; ComponentLink2URL: http://digikey.com/product-detail/en/kingbright/APTR3216SECK-J3-PRV/754-APTR3216SECK-J3-PRVCT-ND/10293112; Device Package: 1206 (3216 Metric); Height (Max): 1.25mm; LastUpdated: 9/2/2020 01:21:09; Lifecycle Status: Active; Minimum Order: 1; Mounting Type: Surface Mount; Package / Case: 1206 (3216 Metric); Packaging: TapeAndReel; PartId: 194; Part Status: Active; Price: 0.20; Series: Heli-R; Size / Dimension: 3.20mm L x 1.60mm W; Supplier 1: DigiKey; Supplier Part Number 1: 754-APTR3216SECK/J3-PRVCT-ND; Supplier Device Package: 1206; Value: Red
footprint LED 1206_3216 RED
pins: 1, 2

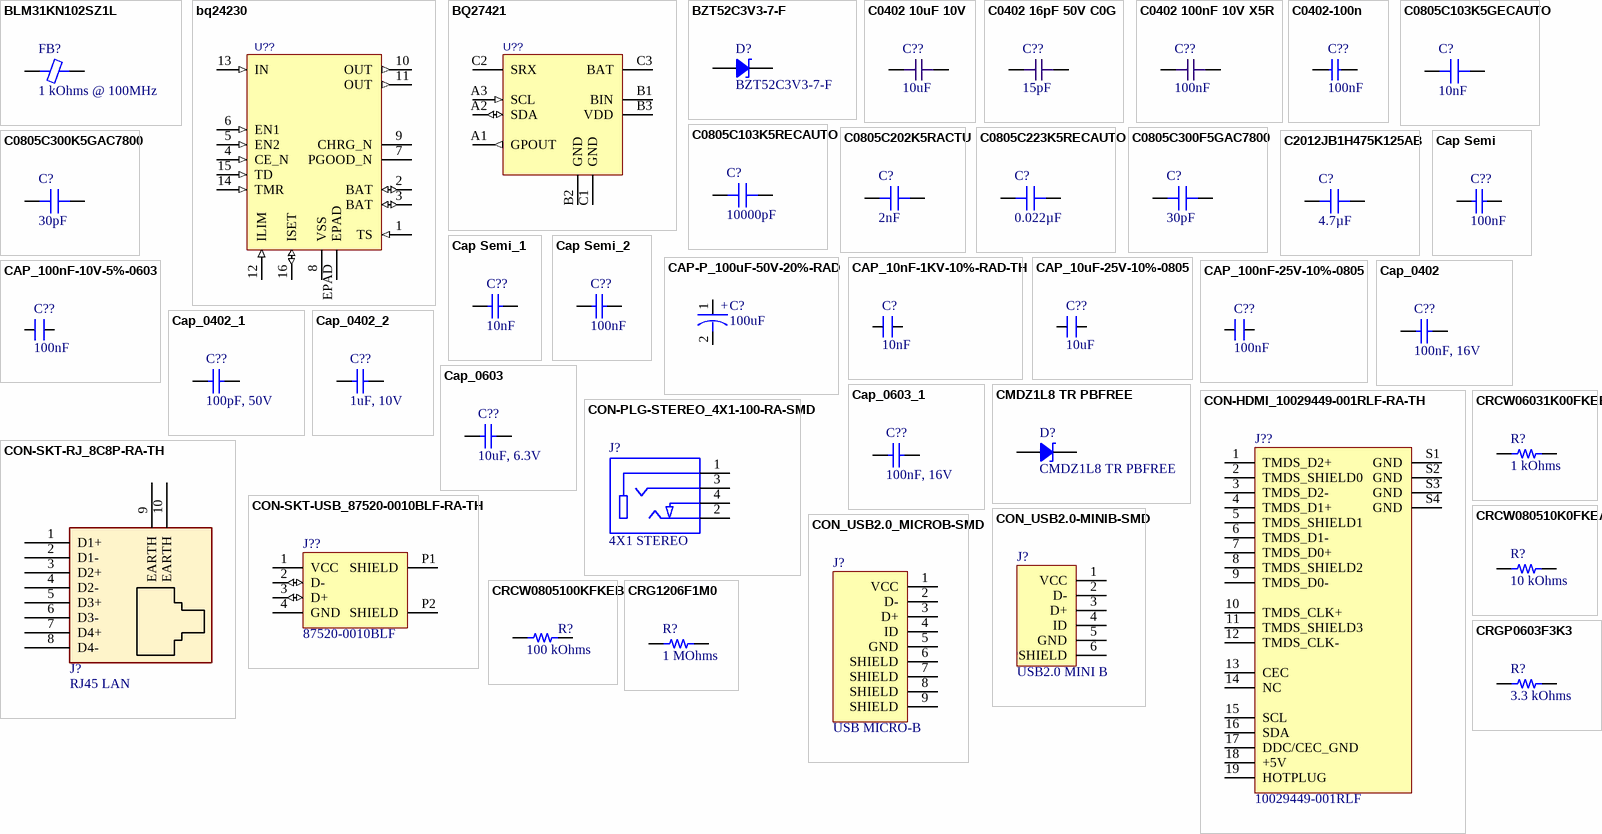
[diagram p1: symbols BLM31KN102SZ1L to CRGP0603F3K3]

## BLM31KN102SZ1L
designator FB?, comment 1 kOhms @ 100MHz
FERRITE BEAD 1 KOHM 1206 1LN; Part Number: BLM31KN102SZ1L; Manufacturer: Murata Electronics; Current Rating (Max): 2A; DC Resistance (DCR) (Max): 75mOhm; Filter Type: Power Line; Number of Lines: 1; ComponentLink1Description: Datasheet; ComponentLink1URL: https://www.murata.com/en-global/products/productdata/8796751200286/QNFA9115.pdf; ComponentLink2Description: DigiKey Link; ComponentLink2URL: http://digikey.com/product-detail/en/murata-electronics/BLM31KN102SZ1L/490-16522-1-ND/7564150; Device Package: 1206 (3216 Metric); Height (Max): 0.071" (1.80mm); Impedance @ Frequency: 1 kOhms @ 100MHz; LastUpdated: 02/09/2020 01:18:24; Lifecycle Status: Active; Minimum Order: 1; Mounting Type: Surface Mount; Operating Temperature: -55°C ~ 125°C; Package / Case: 1206 (3216 Metric); Packaging: TapeAndReel; PartId: 1565; Part Status: Active; Price: 0.10; Ratings: AEC-Q200; Series: BLM; Size / Dimension: 0.126" L x 0.063" W (3.20mm x 1.60mm); Supplier 1: DigiKey; Supplier Part Number 1: 490-16522-1-ND; Value: 1 kOhms @ 100MHz
footprint FER 1206_3216
pins: 1, 2

## bq24230
designator U??  (value not drawn)
BAT CHARGER, Li-ION, SMT, USB, PWR PATH, 500mA, 4.4V, 3mmx3mm QFN-16; Manufacturer 1: Texas Instruments; Body Size: 3.3mm x 3.3mm; Item Phase: Unreleased; MFG Package: VQFN-16; SMT Pitch: 0.5mm; Use in new designs: Yes; Voltage: 5-6.5V; UBX Code: None; Part Number: bq24230; Manufacturer Part Number 1: bq24230; Supplier 1: Digi-key; Supplier Part Number 1: 296-23937-2-ND; Height: 1mm; Max Operating Temp: 85; Min Operating Temp: -40; Pins: 16; Revision: None; Size: Other; Manufacturer 2: None; Manufacturer Part Number 2: None; Supplier 2: None; Supplier Part Number 2: None
footprint QFN0.5P3x3-16Pin_W-Pad (Quad Flat No-Lead, 0.5mm Pitch, 16 Contact, Exposed Pad, 3mmX3mm)
pins: 1 TS (in) "ExternalNTCThermistorInput.Connectthe TS inputto the NTCthermistorin the batterypack.TS monitorsa 10-kΩNTCthermistor.For applicationsthat do not utilizethe TS function,connecta 10-kΩfixedresistorfromTS toVSSto maintaina validvoltagelevelon TS.", 2 BAT (io) "ChargerPowerStageOutputand BatteryVoltageSenseInput.ConnectBATto the positiveterminalof thebattery.BypassBATto VSSwith a 4.7-μF to 47-μF ceramiccapacitor.", 3 BAT (io) "ChargerPowerStageOutputand BatteryVoltageSenseInput.ConnectBATto the positiveterminalof thebattery.BypassBATto VSSwith a 4.7-μF to 47-μF ceramiccapacitor.", 4 CE_N (in) "ChargeEnableActive-LowInput.ConnectCE to a high logiclevelto disablebatterycharging.OUTis activeandbatterysupplementmodeis still available.ConnectCE to a low logiclevelto enablethe batterycharger.CE isinternallypulleddownwith ~285kΩ. Do not leaveCE unconnectedto ensureproperoperation.", 5 EN2 (in) "InputCurrentLimitConfigurationInputs.Use EN1and EN2controlthe maximuminputcurrentand enableUSBcompliance.See Table1 for the descriptionof the operationstates.EN1and EN2are internallypulleddownwith~285kΩ. Do not leaveEN1or EN2unconnectedto ensureproperoperation.", 6 EN1 (in) "InputCurrentLimitConfigurationInputs.Use EN1and EN2controlthe maximuminputcurrentand enableUSBcompliance.See Table1 for the descriptionof the operationstates.EN1and EN2are internallypulleddownwith~285kΩ. Do not leaveEN1or EN2unconnectedto ensureproperoperation.", 7 PGOOD_N (oc) "Open-drainPowerGoodStatusIndicationOutput.PGOODpullsto VSSwhena validinputsourceis detected.PGOODis high-impedancewhenthe inputpoweris not withinspecifiedlimits.ConnectPGOODto the desiredlogicvoltagerail usinga 1-kΩ– 100-kΩresistor,or use with an LEDfor visualindication.", 8 VSS (power) "Ground.Connectto the thermalpad and to the groundrail of the circuit.", 9 CHRG_N (oc) "Open-DrainChargingStatusIndicationOutput.CHGpullsto VSSwhenthe batteryis charging.CHGis highimpedancewhenchargingis completeand whenchargeris disabled.", 10 OUT (out) "SystemSupplyOutput.OUTprovidesa regulatedoutputwhenthe inputis belowthe OVPthresholdand abovethe regulationvoltage.Whenthe inputis out of the operationrange,OUTis connectedto VBAT. ConnectOUTtothe systemload.BypassOUTto VSSwith a 4.7-μF to 47-μF ceramiccapacitor.", 11 OUT (out) "SystemSupplyOutput.OUTprovidesa regulatedoutputwhenthe inputis belowthe OVPthresholdand abovethe regulationvoltage.Whenthe inputis out of the operationrange,OUTis connectedto VBAT. ConnectOUTtothe systemload.BypassOUTto VSSwith a 4.7-μF to 47-μF ceramiccapacitor.", 12 ILIM (in) "AdjustableCurrentLimitProgrammingInput.Connecta 3.1-kΩto 7.8-kΩresistorfromILIMto VSSto programthemaximuminputcurrent(EN2=1,EN1=0).The inputcurrentincludesthe systemload and the batterychargecurrent.LeavingILIMunconnecteddisablesall charging.In USB100/500mode(EN2= 0, EN1=0/1),ILIMcan beleft floating.", 13 IN (in) "InputPowerConnection.ConnectIN to the connectedto externalDC supply(AC adapteror USBport).The inputoperatingrangeis 4.35V to 6.6 V. The inputcan acceptvoltagesup to 26 V withoutdamagebut operationissuspended.Connectbypasscapacitor1μF to 10μF to VSS", 14 TMR (in) "TimerProgrammingInput.TMRcontrolsthe prechargeand fast-chargesafetytimers.ConnectTMRto VSStodisableall safetytimers.Connecta 18-kΩto 72-kΩresistorbetweenTMRand VSSto programthe timersadesiredlength.LeaveTMRunconnectedto set the timersto the 5-hourfast chargeand 30-minuteprechargedefaulttimervalues.", 15 TD (in) "TerminationDsableInput.ConnectTD high to disablechargertermination.ConnectTD to VSSto enablechargertermination.TD is checkedduringstart-uponly and cannotbe changedduringoperation.See the TD sectioninthis datasheetfor a descriptionof the behaviorwhenterminationis disabled.TD is internallypulleddownto VSSwith ~285kΩ. Do not leaveTD unconnectedto ensureproperoperation.", 16 ISET (io) "Fast-ChargeCurrentProgrammingInput.Connecta 1.8-kΩto 36-kΩresistorfromISETto VSSto programthefast-chargecurrentlevel.Chargingis disabledif ISETis left unconnected.Whilecharging,the voltageat ISETreflectsthe actualchargingcurrentand can be usedto monitorchargecurrent.See theChargeCurrentTranslatorsectionfor moredetails.", EPAD (power) "SystemSupplyOutput.OUTprovidesa regulatedoutputwhenthe inputis belowthe OVPthresholdand abovethe regulationvoltage.Whenthe inputis out of the operationrange,OUTis connectedto VBAT. ConnectOUTtothe systemload.BypassOUTto VSSwith a 4.7-μF to 47-μF ceramiccapacitor."

## BQ27421
designator U??
IC, SMT, BATTERY GAUGE, INGLE CELL Li-ION, COULOMB COUNTER, DSBGA-9 1.6mmX1.6mm; Part Number: BQ27421; Manufacturer 1: Texas Instruments; Part Name: B39162B4353P810; Body Size: 1.4mm x 1.1mm; Current: None; Item Phase: In Production; MFG Package: QCS5P; Use in new designs: Yes; Manufacturer Part Number 1: BQ27421; Height: 0.45mm; Max Operating Temp: 85; Min Operating Temp: -40; Pins: 5; Revision: 0A; Voltage: N/A; UBX Code: None
footprint BQ27421 (9-DSBGA, 9 pin Texas Instruments BQ27421 Battery Gauge, .5mm pitch, 1.6mmX1.6mm)
pins: A1 GPOUT (out) "General Purpose Open Collector Output", A2 SDA (io) "I2C Data Signal", A3 SCL (in) "I2C Clock Signal", B1 BIN (power) "Battery Insertion Detection Input", B2 GND (power) "Ground", B3 VDD (power) "1.8V LDO Output, Decouple with 1uF, Do Not Connect To External Circuit", C1 GND (power) "Ground", C2 SRX "Current Sense Input Connected to VSYS", C3 BAT (power) "LDO Input and Connection To Battery, Decouple with 1uF"

## BZT52C3V3-7-F
designator D?
DIODE ZENER 3.3V 500MW SOD123; Manufacturer: Diodes Incorporated; Current - Reverse Leakage @ Vr: 5µA @ 1V; Impedance (Max) (Zzt): 95 Ohms; Tolerance: ±6%; Voltage - Forward (Vf) (Max) @ If: 900mV @ 10mA; Part Number: BZT52C3V3-7-F; ComponentLink1Description: Datasheet; ComponentLink1URL: https://www.diodes.com/assets/Datasheets/ds18004.pdf; ComponentLink2Description: DigiKey Link; ComponentLink2URL: http://digikey.com/product-detail/en/diodes-incorporated/BZT52C3V3-7-F/BZT52C3V3-FDICT-ND/717854; LastUpdated: 9/2/2020 01:19:25; Lifecycle Status: Active; Minimum Order: 1; Mounting Type: Surface Mount; Operating Temperature: -65°C ~ 150°C; Package / Case: SOD-123; Packaging: TapeAndReel; PartId: 2214; Part Status: Active; Power - Max: 500mW; Price: 0.04; Series: -; Supplier 1: DigiKey; Supplier Part Number 1: BZT52C3V3-FDICT-ND; Supplier Device Package: SOD-123; Voltage - Zener (Nom) (Vz): 3.3V
footprint SOD-123
pins: 1, 2

## C0402 10uF 10V
designator C??  value 10uF  (hidden comment: C0402 10uF 10V)
Chip Capacitor, 0402, 10uF, 10V, X5R; EIA Code: X5R; Max. Voltage: 10V; Supplier 1: Digi-Key; Supplier Part Number 1: 1276-1450-2-ND
footprint C0402-HIGH-DENSITY (Chip Capacitor, 2-Leads, Body 1.02x0.51mm, IPC High Density)
pins: 1, 2

## C0402 16pF 50V C0G
designator C??, comment value 15pF  (hidden comment: C0402 15pF 50V C0G)
Chip Capacitor, 0402, 15pF, 50V, C0G; Max. Voltage: 50V; Supplier 1: Digi-Key; Supplier Part Number 1: 490-5926-1-ND; EIA Code: C0G
footprint C0402-IPC
footprint C0402-HIGH-DENSITY (Chip Capacitor, 2-Leads, Body 1.02x0.51mm, IPC High Density)
pins: 1, 2

## C0402 100nF 10V X5R
designator C??  value 100nF  (hidden comment: C0402 100nF 10V X5R)
Chip Capacitor, 0402, 100nF, 10V, X5R; EIA Code: X5R; Max. Voltage: 10V; Supplier 1: Digi-Key; Supplier Part Number 1: 311-1336-1-ND
footprint C0402-IPC
footprint C0402-HIGH-DENSITY (Chip Capacitor, 2-Leads, Body 1.02x0.51mm, IPC High Density)
pins: 1, 2

## C0402-100n
designator C??, comment 100nF
0.10µF 50V Ceramic Capacitor X7R 0603; Manufacturer Part Number: CL10B104KB8SFNC; Value: 100nF; Digi-Key Part Number: 1276-1936-1-ND
footprint c0402
footprint c0603
pins: 1, 2

## C0805C103K5GECAUTO
designator C?, comment 10nF
CAP CER 0805 10NF 50V C0G 10%; Part Number: C0805C103K5GECAUTO; Manufacturer: KEMET; Capacitance: 10000pF; Temperature Coefficient: C0G, NP0; Value: 10nF; Applications: Automotive, ESD Protection; ComponentLink1Description: Datasheet; ComponentLink1URL: https://api.kemet.com/component-edge/download/datasheet/C0805C103K5GECAUTO.pdf; ComponentLink2Description: DigiKey Link; ComponentLink2URL: http://digikey.com/product-detail/en/kemet/C0805C103K5GECAUTO/399-17903-1-ND/8640570; Device Package: 0805 (2012 Metric); Features: Low ESL; LastUpdated: 02/09/2020 01:04:06; Lifecycle Status: Active; Minimum Order: 1; Mounting Type: Surface Mount, MLCC; Operating Temperature: -55°C ~ 125°C; Package / Case: 0805 (2012 Metric); Packaging: TapeAndReel; PartId: 18336; Part Status: Active; Price: 0.06; Ratings: AEC-Q200; Series: ESD SMD Auto C0G; Size / Dimension: 0.079" L x 0.049" W (2.00mm x 1.25mm); Supplier 1: DigiKey; Supplier Part Number 1: 399-17903-1-ND; Thickness (Max): 0.039" (1.00mm); Tolerance: ±10%; Voltage - Rated: 50V
footprint CAP 0805_2012
pins: 1, 2

## C0805C103K5RECAUTO
designator C?, comment 10000pF
CAP CER 0805 10NF 50V X7R 10%; Part Number: C0805C103K5RECAUTO; Manufacturer: KEMET; Value: 10000pF; Applications: Automotive, ESD Protection; Capacitance: 10000pF; ComponentLink1Description: Datasheet; ComponentLink1URL: https://api.kemet.com/component-edge/download/datasheet/C0805C103K5RECAUTO.pdf; ComponentLink2Description: DigiKey Link; ComponentLink2URL: http://digikey.com/product-detail/en/kemet/C0805C103K5RECAUTO/399-17885-1-ND/8640552; Device Package: 0805 (2012 Metric); LastUpdated: 02/09/2020 01:04:31; Lifecycle Status: Active; Minimum Order: 1; Mounting Type: Surface Mount, MLCC; Operating Temperature: -55°C ~ 125°C; Package / Case: 0805 (2012 Metric); Packaging: TapeAndReel; PartId: 8498; Part Status: Active; Price: 0.05; Ratings: AEC-Q200; Series: ESD SMD Auto X7R; Size / Dimension: 0.079" L x 0.049" W (2.00mm x 1.25mm); Supplier 1: DigiKey; Supplier Part Number 1: 399-17885-1-ND; Temperature Coefficient: X7R; Thickness (Max): 0.035" (0.88mm); Tolerance: ±10%; Voltage - Rated: 50V
footprint CAP 0805_2012
pins: 1, 2

## C0805C202K5RACTU
designator C?, comment 2nF
CAP CER 2000PF 50V X7R 0805; Part Number: C0805C202K5RACTU; Manufacturer: KEMET; Tolerance: ±10%; Value: 2nF; Applications: Bypass, Decoupling; Capacitance: 2000pF; ComponentLink1Description: Datasheet; ComponentLink1URL: https://content.kemet.com/datasheets/KEM_C1002_X7R_SMD.pdf; ComponentLink2Description: DigiKey Link; ComponentLink2URL: http://digikey.com/product-detail/en/kemet/C0805C202K5RACTU/399-7343-1-ND/3316964; Device Package: 0805 (2012 Metric); LastUpdated: 02/09/2020 01:04:17; Lifecycle Status: Active; Minimum Order: 1; Mounting Type: Surface Mount, MLCC; Operating Temperature: -55°C ~ 125°C; Package / Case: 0805 (2012 Metric); Packaging: TapeAndReel; PartId: 14983; Part Status: Active; Price: 0.03; Series: SMD Comm X7R; Size / Dimension: 0.079" L x 0.049" W (2.00mm x 1.25mm); Supplier 1: DigiKey; Supplier Part Number 1: 399-7343-1-ND; Temperature Coefficient: X7R; Thickness (Max): 0.035" (0.88mm); Voltage - Rated: 50V
footprint CAP 0805_2012
pins: 1, 2

## C0805C223K5RECAUTO
designator C?, comment 0.022µF
CAP CER 0805 22NF 50V X7R 10%; Part Number: C0805C223K5RECAUTO; Manufacturer: KEMET; Value: 0.022µF; Applications: Automotive, ESD Protection; Capacitance: 0.022µF; ComponentLink1Description: Datasheet; ComponentLink1URL: https://api.kemet.com/component-edge/download/datasheet/C0805C223K5RECAUTO.pdf; ComponentLink2Description: DigiKey Link; ComponentLink2URL: http://digikey.com/product-detail/en/kemet/C0805C223K5RECAUTO/399-17886-1-ND/8640553; Device Package: 0805 (2012 Metric); LastUpdated: 9/2/2020 01:04:15; Lifecycle Status: Active; Minimum Order: 1; Mounting Type: Surface Mount, MLCC; Operating Temperature: -55°C ~ 125°C; Package / Case: 0805 (2012 Metric); Packaging: TapeAndReel; PartId: 15719; Part Status: Active; Price: 0.05; Ratings: AEC-Q200; Series: ESD SMD Auto X7R; Size / Dimension: 0.079" L x 0.049" W (2.00mm x 1.25mm); Supplier 1: DigiKey; Supplier Part Number 1: 399-17886-1-ND; Temperature Coefficient: X7R; Thickness (Max): 0.035" (0.88mm); Tolerance: ±10%; Voltage - Rated: 50V
footprint CAP 0805_2012
pins: 1, 2

## C0805C300F5GAC7800
designator C?, comment 30pF
CAP CER 30PF 50V NP0 0805; Part Number: C0805C300F5GAC7800; Manufacturer: KEMET; Temperature Coefficient: C0G, NP0; Tolerance: ±1%; Value: 30pF; Applications: General Purpose; Capacitance: 30pF; ComponentLink1Description: Datasheet; ComponentLink1URL: https://api.kemet.com/component-edge/download/datasheet/C0805C300F5GACTU.pdf; ComponentLink2Description: DigiKey Link; ComponentLink2URL: http://digikey.com/product-detail/en/kemet/C0805C300F5GAC7800/399-14586-1-ND/7103878; Device Package: 0805 (2012 Metric); Features: Low ESL; LastUpdated: 02/09/2020 01:04:34; Lifecycle Status: Active; Minimum Order: 1; Mounting Type: Surface Mount, MLCC; Operating Temperature: -55°C ~ 125°C; Package / Case: 0805 (2012 Metric); Packaging: TapeAndReel; PartId: 7037; Part Status: Active; Price: 0.29; Series: SMD Comm C0G; Size / Dimension: 0.079" L x 0.049" W (2.00mm x 1.25mm); Supplier 1: DigiKey; Supplier Part Number 1: 399-14586-1-ND; Thickness (Max): 0.035" (0.88mm); Voltage - Rated: 50V
footprint CAP 0805_2012
pins: 1, 2

## C0805C300K5GAC7800
designator C?, comment 30pF
CAP CER 30PF 50V NP0 0805; Part Number: C0805C300K5GAC7800; Manufacturer: KEMET; Temperature Coefficient: C0G, NP0; Tolerance: ±10%; Value: 30pF; Applications: General Purpose; Capacitance: 30pF; ComponentLink1Description: Datasheet; ComponentLink1URL: https://api.kemet.com/component-edge/download/datasheet/C0805C300K5GACTU.pdf; ComponentLink2Description: DigiKey Link; ComponentLink2URL: http://digikey.com/product-detail/en/kemet/C0805C300K5GAC7800/399-17443-1-ND/8570410; Device Package: 0805 (2012 Metric); Features: Low ESL; LastUpdated: 02/09/2020 01:04:24; Lifecycle Status: Active; Minimum Order: 1; Mounting Type: Surface Mount, MLCC; Operating Temperature: -55°C ~ 125°C; Package / Case: 0805 (2012 Metric); Packaging: TapeAndReel; PartId: 12424; Part Status: Active; Price: 0.06; Series: SMD Comm C0G; Size / Dimension: 0.079" L x 0.049" W (2.00mm x 1.25mm); Supplier 1: DigiKey; Supplier Part Number 1: 399-17443-1-ND; Thickness (Max): 0.035" (0.88mm); Voltage - Rated: 50V
footprint CAP 0805_2012
pins: 1, 2

## C2012JB1H475K125AB
designator C?, comment 4.7µF
CAP CER 4.7UF 50V JB 0805; Part Number: C2012JB1H475K125AB; Manufacturer: TDK Corporation; Tolerance: ±10%; Value: 4.7µF; Applications: General Purpose; Capacitance: 4.7µF; ComponentLink1Description: Datasheet; ComponentLink1URL: https://product.tdk.com/info/en/catalog/datasheets/mlcc_commercial_general_en.pdf?ref_disty=digikey; ComponentLink2Description: DigiKey Link; ComponentLink2URL: http://digikey.com/product-detail/en/tdk-corporation/C2012JB1H475K125AB/445-11510-1-ND/3953176; Device Package: 0805 (2012 Metric); Features: Low ESL; LastUpdated: 02/09/2020 01:04:16; Lifecycle Status: Active; Minimum Order: 1; Mounting Type: Surface Mount, MLCC; Operating Temperature: -25°C ~ 85°C; Package / Case: 0805 (2012 Metric); Packaging: TapeAndReel; PartId: 15333; Part Status: Active; Price: 0.18; Series: C; Size / Dimension: 0.079" L x 0.049" W (2.00mm x 1.25mm); Supplier 1: DigiKey; Supplier Part Number 1: 445-11510-1-ND; Temperature Coefficient: JB; Thickness (Max): 0.057" (1.45mm); Voltage - Rated: 50V
footprint CAP 0805_2012
pins: 1, 2